# Altium schematic symbol library B4B-PH-K-S.Schlib: 1 symbol
Pins are listed as number, name and electrical type; pins without a type are passive.

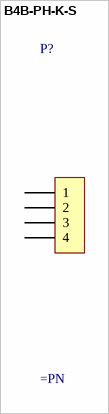
[diagram p0: symbol B4B-PH-K-S]

## B4B-PH-K-S
designator P?
2mm Pitch, 1X4 Vertical Male Header
pins: 1, 2, 3, 4